# Altium footprint library RJ12_6-6_215876-1.PcbLib: 1 footprints
Each footprint in its own frame and in the unit in brackets; x right, y up, seen from the top. Pads: shape width x height; smd on the part's side, far side on the other; paste and mask are expansions set on the pad; w line width, h text height; cw(c..) or ccw(c..) is an arc to the next point about the centre after c.
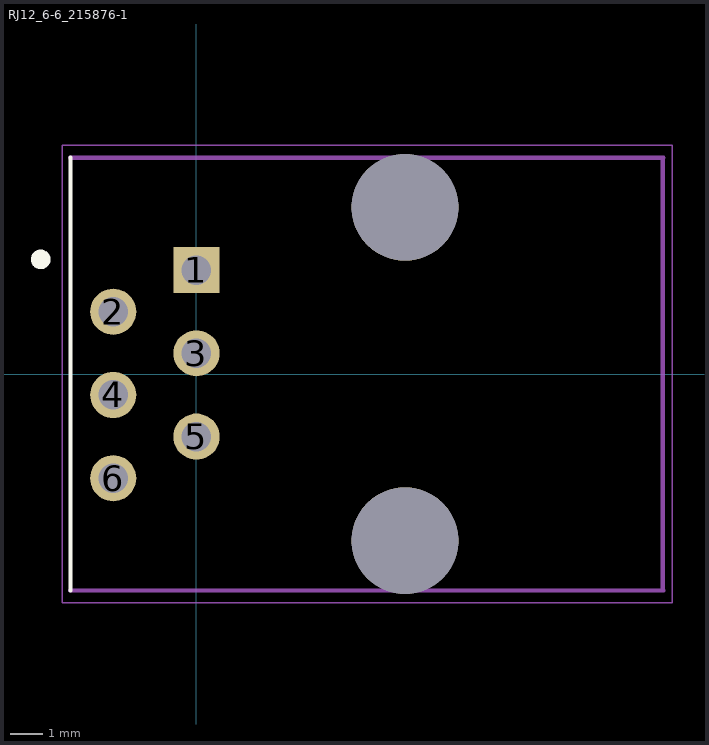
[diagram p0: the footprint, top view; thin cyan lines are the x and y axes]

## RJ12_6-6_215876-1 [mm]
pads (8):
  rect 1.408x1.408 hole 0.9: 1(0,3.17)
  round 1.408 hole 0.9: 2(-2.54,1.9) 3(0,0.63) 4(-2.54,-0.64) 5(0,-1.91) 6(-2.54,-3.18)
  round 3.25 hole 3.25 unplated: ""(6.36,-5.08) ""(6.36,5.08)
Top Overlay:
  circle w0.3: c-4.75,3.495 r0.15
  lines w0.127: -3.84,-6.605 -3.84,6.6
Mechanical 1:
  lines w0.127: 14.224,-6.604 14.224,6.604
Mechanical 13:
  circle w0.3: c0,3.17 r0.15
  lines w0.127: -3.85,-6.605 14.25,-6.605 ; -3.85,6.595 14.25,6.595
Mechanical 15:
  lines w0.05: -4.09,-6.975 14.51,-6.975 14.51,6.975 -4.09,6.975 -4.09,-6.975
3D body "215876-1.stp": height 11.59, standoff -3.11, extent -3.876,-6.6 14.224,6.6